# Altium schematic symbol library RPSLib.SchLib: 241 symbols (part 4 of 8)
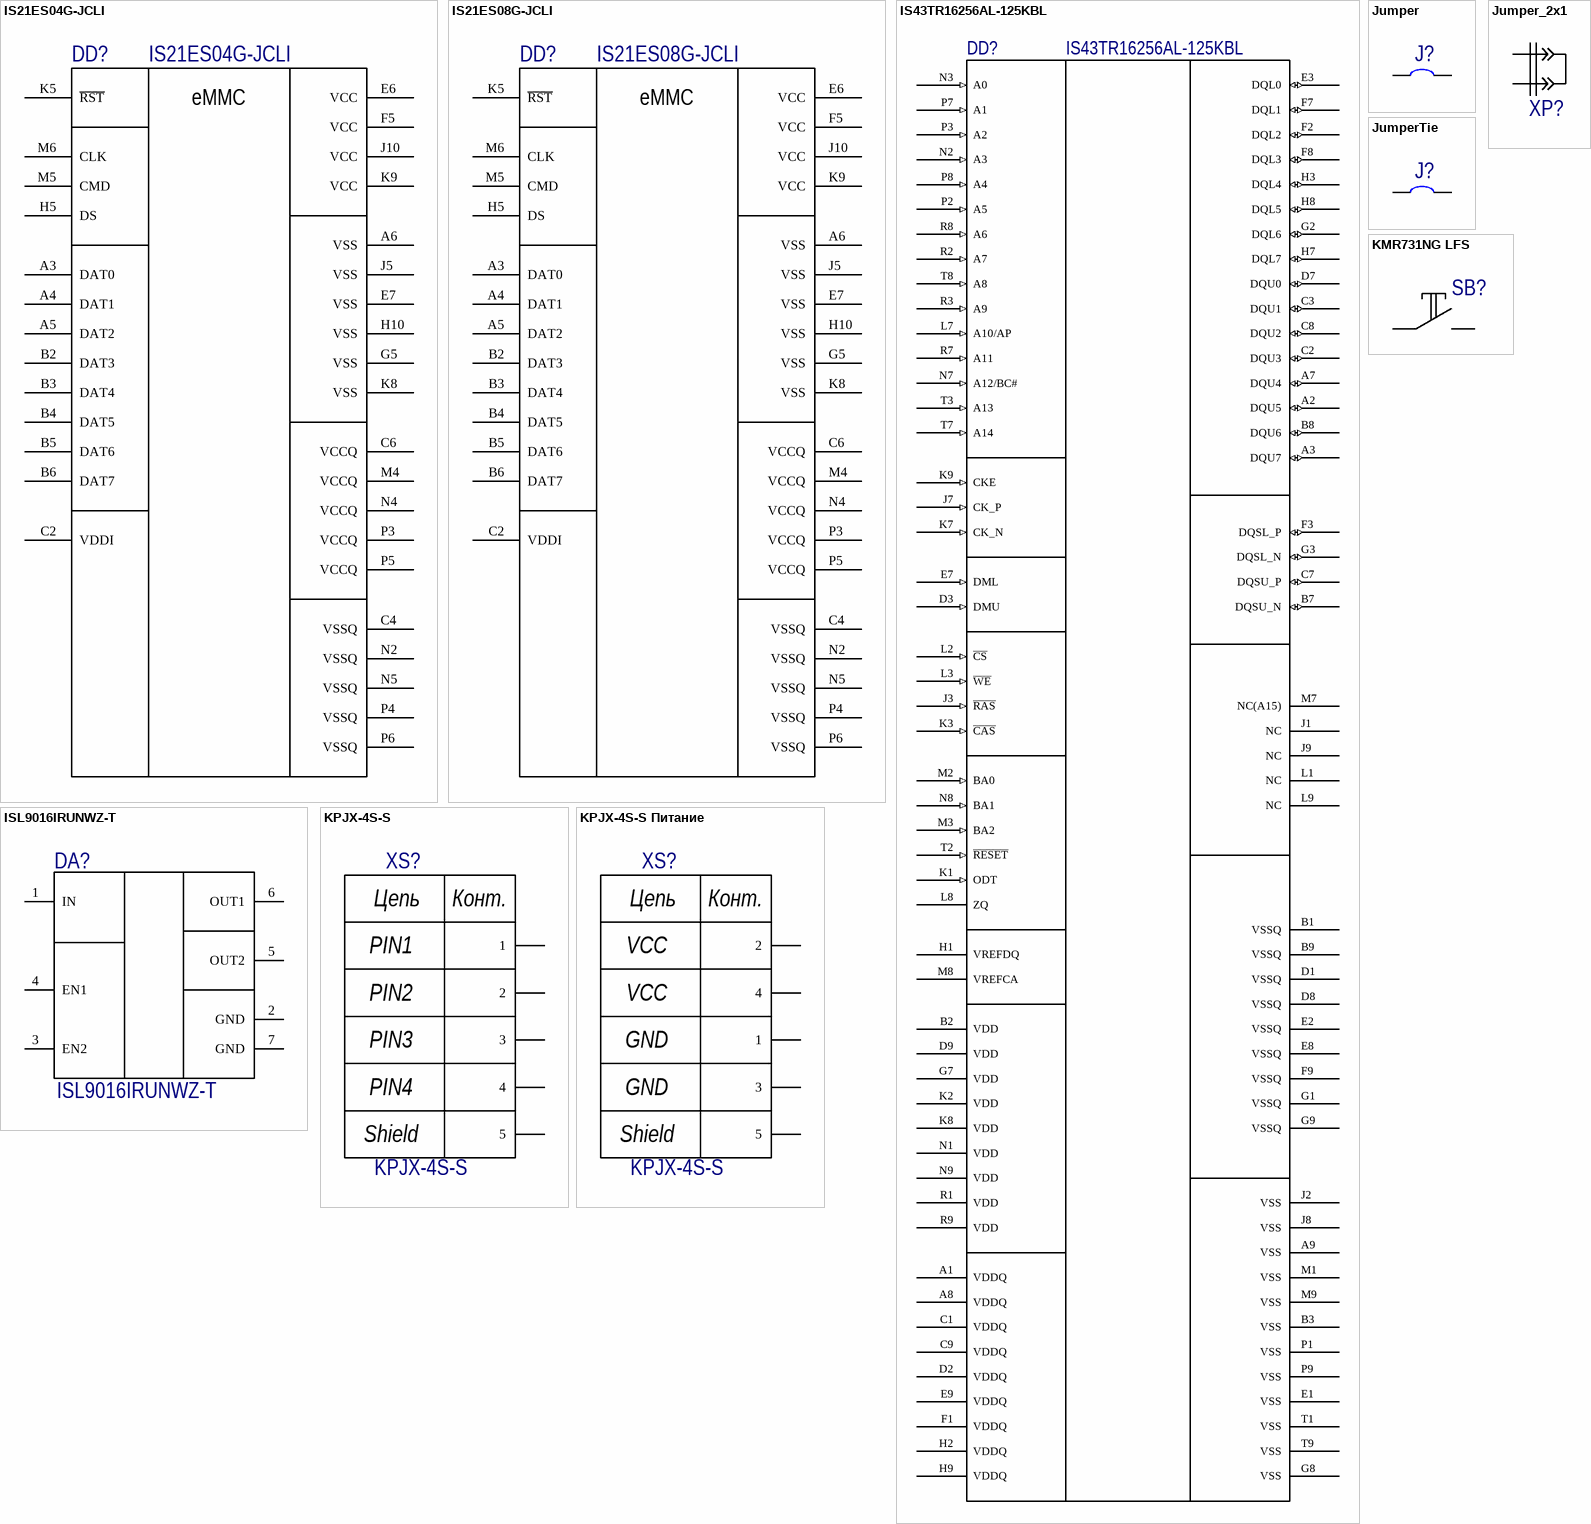
[diagram p28: symbols IS21ES04G-JCLI to KPJX-4S-S Питание]

## KPJX-4S-S Питание
designator XS?, comment KPJX-4S-S
CONN JACK FMALE 4POS TIN SOLDER; Manufacturer: Kycon; Voltage Rating (DC): 20V; Connector Type: Power; Gender: Female; Current Rating: 7.5A; Insulation Resistance: 50MR; Number of Contacts: 4; Supplier 1: Digi-Key; Manufacturer Part Number: KPJX-4S-S; RoHS: Yes; Category: Connectors; Stock 1: 3946; Pricing 1: 1=2,23000, 10=2,02100, 25=1,89760, 50=1,81500, 100=1,73250, 250=1,56752, 500=1,44376, 1000=1,23750, 2500=1,15500 (USD); Mount: Through Hole; Color: Black; Contact Material: Brass; Contact Plating: Tin; Housing Material: PBT; Orientation: Straight; Termination: Solder; Packaging: Tray; Voltage Rating: 20V; Contact Gender: Female; Package Quantity: 170; Radiation Hardening: No; Flammability Rating: UL94 V-0; ComponentLink1URL: https://datasheet.ciiva.com/4561/kpjx-365262-4561421.pdf?src-supplier=Mouser; ComponentLink1Description: https://datasheet.ciiva.com/4561/kpjx-365262-4561421.pdf?src-supplier=Mouser; Supplier Part Number 1: 2092-KPJX-4S-S-ND
footprint KPJX-4S-S
pins: 1, 2, 3, 4, 5
text: Цепь; Конт.; VCC; GND; Shield

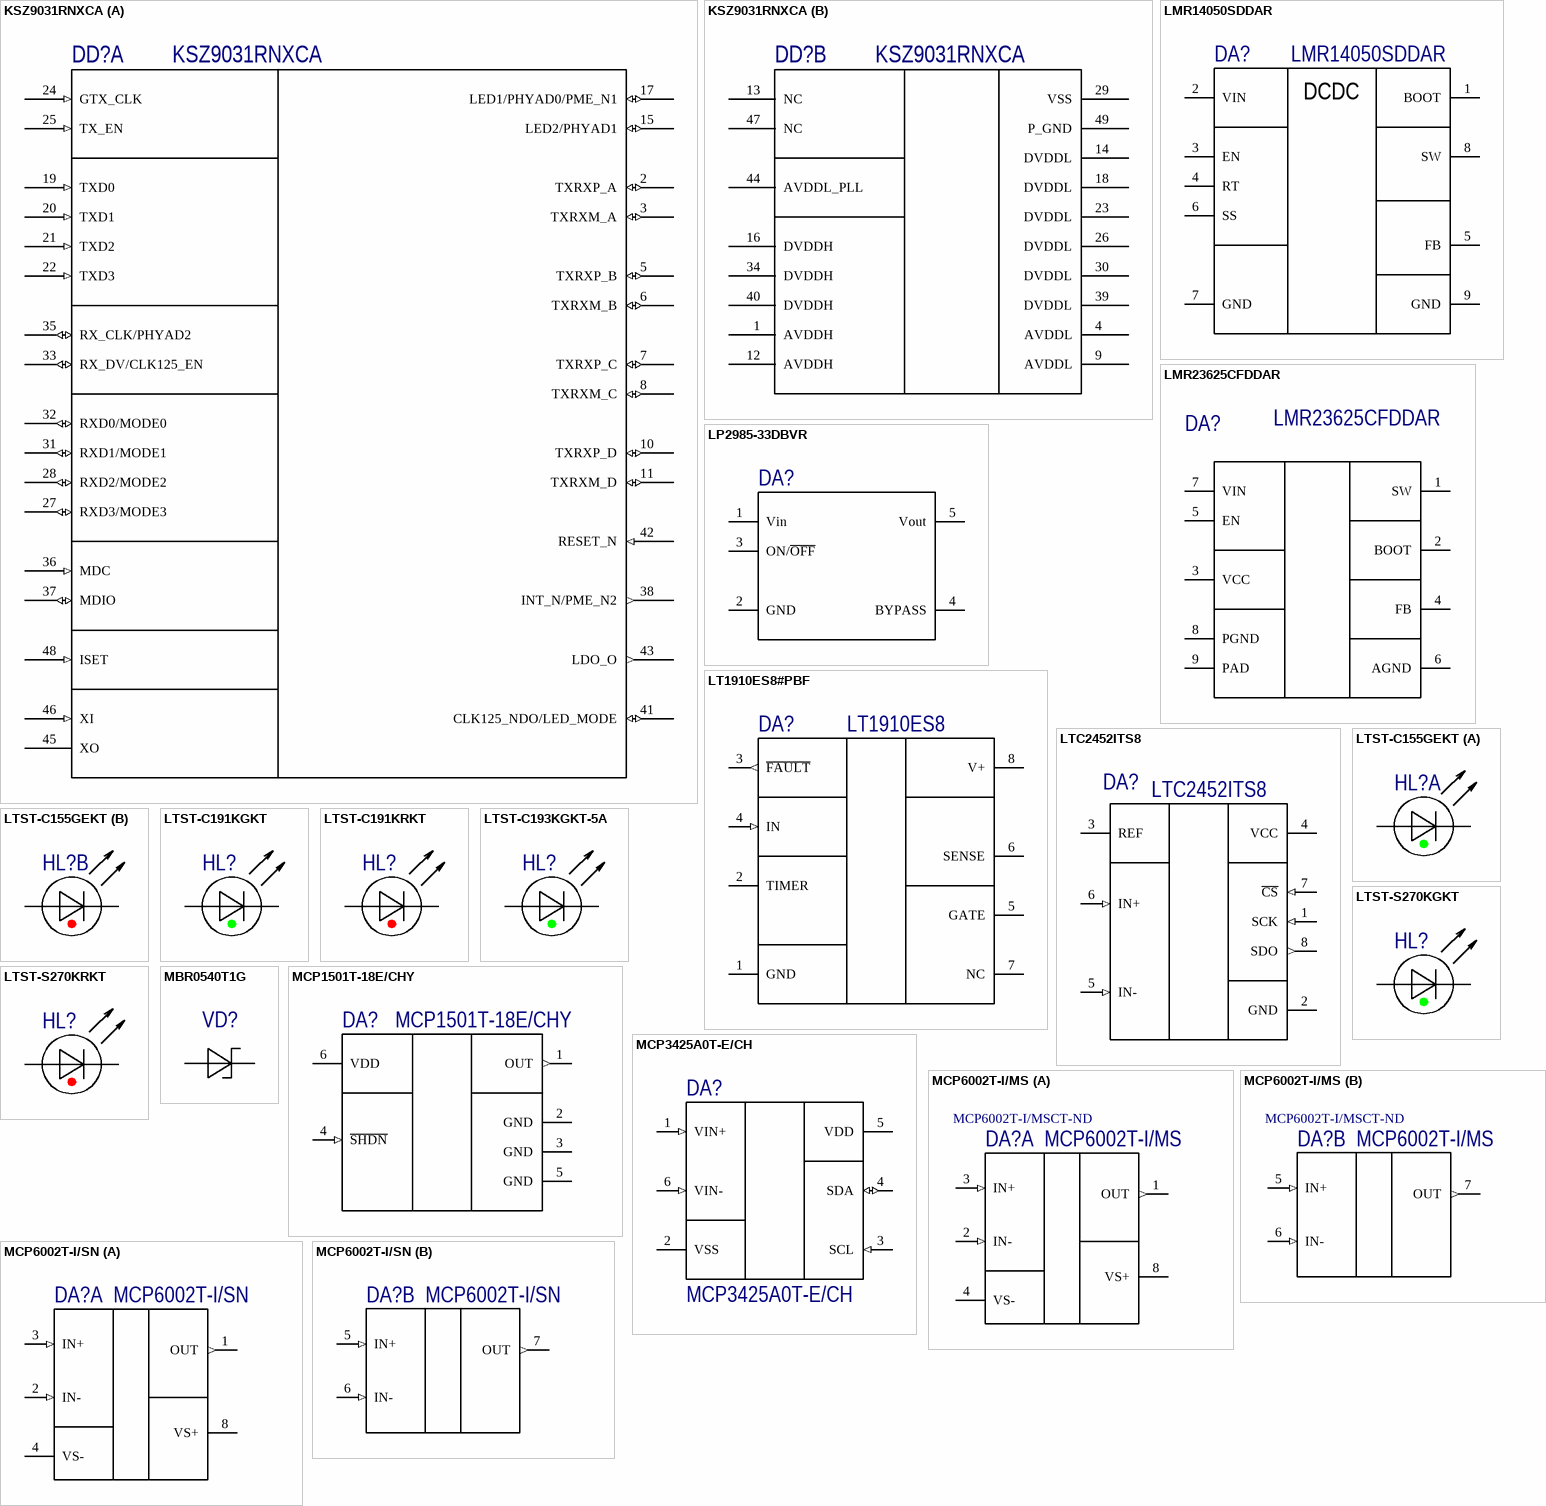
[diagram p6: symbols KSZ9031RNXCA to MCP6002T-I/SN]

## KSZ9031RNXCA
designator DD?
IC TXRX ETHERNET 48QFN; Manufacturer: Microchip; Supplier 1: Digi-Key; Manufacturer Part Number: KSZ9031RNXCA; RoHS: Yes; Category: Ethernet Interface ICs; Stock 1: 1696; Pricing 1: 1=5,51000, 10=4,95000, 25=4,68000, 100=3,84800 (USD); ComponentLink1URL: https://datasheet.ciiva.com/12289/nph-46-12289944.pdf?src-supplier=Mouser; ComponentLink1Description: https://datasheet.ciiva.com/12289/nph-46-12289944.pdf?src-supplier=Mouser; ComponentLink2URL: https://datasheet.ciiva.com/6634/nph-46-6634949.pdf?src-supplier=Digi-Key; ComponentLink2Description: https://datasheet.ciiva.com/6634/nph-46-6634949.pdf?src-supplier=Digi-Key; ComponentLink3URL: https://datasheet.ciiva.com/15149/getdatasheetpartid-564369-15149356.pdf?src-supplier=Verical; ComponentLink3Description: https://datasheet.ciiva.com/15149/getdatasheetpartid-564369-15149356.pdf?src-supplier=Verical; ComponentLink4URL: https://datasheet.ciiva.com/36857/ksz9031rnx-36857005.pdf?src-supplier=Element14; ComponentLink4Description: https://datasheet.ciiva.com/36857/ksz9031rnx-36857005.pdf?src-supplier=Element14; ComponentLink5URL: https://datasheet.ciiva.com/16495/nph-46-16495758.pdf?src-supplier=Future+Electronics; ComponentLink5Description: https://datasheet.ciiva.com/16495/nph-46-16495758.pdf?src-supplier=Future+Electronics; Supplier Part Number 1: 576-4040-ND
part A pins: 2 TXRXP_A (io) "Media Depend Interface[0], Positive signal of differential pair", 3 TXRXM_A (io) "Media Depend Interface[0], Negative signal of differential pair", 5 TXRXP_B (io) "Media Depend Interface[1], Positive signal of differential pair", 6 TXRXM_B (io) "Media Depend Interface[1], Negative signal of differential pair", 7 TXRXP_C (io) "Media Depend Interface[2], Positive signal of differential pair", 8 TXRXM_C (io) "Media Depend Interface[2], Negative signal of differential pair", 10 TXRXP_D (io) "Media Depend Interface[3], Positive signal of differential pair", 11 TXRXM_D (io) "Media Depend Interface[3], Negative signal of differential pair", 15 LED2/PHYAD1 (io), 17 LED1/PHYAD0/PME_N1 (io), 19 TXD0 (in) "RGMII mode: RGMII TD0 (Transmit Data 0) input", 20 TXD1 (in) "RGMII mode: RGMII TD1 (Transmit Data 1) input", 21 TXD2 (in) "RGMII mode: RGMII TD2 (Transmit Data 2) input", 22 TXD3 (in) "RGMII mode: RGMII TD3 (Transmit Data 3) input", 24 GTX_CLK (in) "RGMII mode: RGMII TXC (Transmit Reference Clock) input", 25 TX_EN (in) "RGMII mode: RGMII TX_CTL (Transmit Control) input", 27 RXD3/MODE3 (io), 28 RXD2/MODE2 (io), 31 RXD1/MODE1 (io), 32 RXD0/MODE0 (io), 33 RX_DV/CLK125_EN (io), 35 RX_CLK/PHYAD2 (io), 36 MDC (in) "Management data clock input, This pin is the input reference clock for MDIO (Pin 37).", 37 MDIO (io) "Management data input/output, This pin is synchronous to MDC (Pin 36) and requires an external pull-up resistor to DVDDH (Digital VDD_I/O) in a range from 1.0 kOhm to 4.7 kOhm.", 38 INT_N/PME_N2 (out), 41 CLK125_NDO/LED_MODE (io), 42 RESET_N (in) "Chip reset (active low).", 43 LDO_O (out) "On chip 1.2 V LDO controller output", 45 XO "25 MHZ crystal feedback this pin is a no connect if an oscillator or external clock source is used.", 46 XI (in) "Crystal / Oscillator / External Clock input 25 MHz +/-50 ppm tolerance.", 48 ISET (in) "Set the transmit output level Connect a 12.1 kOhm 1% resistor to ground on this pin."
part B pins: 1 AVDDH (power) "Analog VDD.", 4 AVDDL (power) "1.2 V Analog VDD.", 9 AVDDL (power) "1.2 V Analog VDD.", 12 AVDDH (power) "Analog VDD.", 13 NC "No connect.", 14 DVDDL (power) "1.2 V Digital VDD.", 16 DVDDH (power) "3.3 V, 2.5 V, or 1.8 V digital VDD_I/O.", 18 DVDDL (power) "1.2 V Digital VDD.", 23 DVDDL (power) "1.2 V Digital VDD.", 26 DVDDL (power) "1.2 V Digital VDD.", 29 VSS (power) "Digital ground", 30 DVDDL (power) "1.2 V Digital VDD.", 34 DVDDH (power) "3.3 V, 2.5 V, or 1.8 V digital VDD_I/O.", 39 DVDDL (power) "1.2 V Digital VDD.", 40 DVDDH (power) "3.3 V, 2.5 V, or 1.8 V digital VDD_I/O.", 44 AVDDL_PLL (power) "1.2 V Analog VDD for PLL.", 47 NC "No connect.", 49 P_GND (power) "Exposed paddle on bottom of chip Connect P_GND to ground."

## LMR14050SDDAR
designator DA?
IC REG BUCK ADJ 5A; Manufacturer: Texas Instruments; Quiescent Current: 40uA; Supplier 1: Digi-Key; Manufacturer Part Number: LMR14050SDDAR; RoHS: Yes; Category: Voltage Regulators - Switching; Stock 1: 2989; Pricing 1: 1=2,88000, 10=2,58900, 25=2,44720, 100=2,01220, 250=1,80556, 500=1,74028, 1000=1,44661 (USD); Min Operating Temperature: -40°C; Max Operating Temperature: 125°C; Lead Free: Lead Free; ComponentLink1URL: http://www.ti.com/general/docs/lit/getliterature.tsp?genericPartNumber=LMR14050&&fileType=pdf&src-supplier=Avnet; ComponentLink1Description: http://www.ti.com/general/docs/lit/getliterature.tsp?genericPartNumber=LMR14050&&fileType=pdf&src-supplier=Avnet; ComponentLink2URL: http://www.ti.com/lit/ds/symlink/lmr14050.pdf?src-supplier=Digi-Key; ComponentLink2Description: http://www.ti.com/lit/ds/symlink/lmr14050.pdf?src-supplier=Digi-Key; Supplier Part Number 1: 296-44322-1-ND
footprint SOIC127P600X170_HS-9N (SOIC, 8-Leads, Body 4,90x3,90mm, Pitch 1,27mm, Thermal Pad 3,10x2,40mm, IPC Medium Density)
pins: 1 BOOT, 2 VIN (power), 3 EN, 4 RT, 5 FB, 6 SS, 7 GND (power), 8 SW, 9 GND (power)
text: DCDC

## LMR23625CFDDAR
designator DA?
IC REG BUCK ADJ 2.5A SYNC 8SOPWR; Manufacturer: Texas Instruments; Quiescent Current: 75uA; Supplier 1: Digi-Key; Manufacturer Part Number: LMR23625CFDDAR; Stock 1: 5669; Pricing 1: 1=3,24000, 10=2,91200, 100=2,26370, 500=1,95782, 1000=1,62744 (USD); RoHS: No; Min Operating Temperature: -40°C; Max Operating Temperature: 125°C; Lead Free: Lead Free; ComponentLink1URL: http://www.ti.com/lit/ds/symlink/lmr23625.pdf?src-supplier=Digi-Key; ComponentLink1Description: http://www.ti.com/lit/ds/symlink/lmr23625.pdf?src-supplier=Digi-Key; ComponentLink2URL: http://www.ti.com/general/docs/suppproductinfo.tsp?distId=10&amp;gotoUrl=http%3A%2F%2Fwww.ti.com%2Flit%2Fgpn%2Flmr23625&src-supplier=Digi-Key; ComponentLink2Description: http://www.ti.com/general/docs/suppproductinfo.tsp?distId=10&amp;gotoUrl=http%3A%2F%2Fwww.ti.com%2Flit%2Fgpn%2Flmr23625&src-supplier=Digi-Key; Supplier Part Number 1: 296-47269-1-ND
footprint SOIC127P600X170_HS-9N (SOIC, 8-Leads, Body 4,90x3,90mm, Pitch 1,27mm, Thermal Pad 3,10x2,40mm, IPC Medium Density)
pins: 1 SW, 2 BOOT, 3 VCC, 4 FB, 5 EN, 6 AGND, 7 VIN, 8 PGND, 9 PAD

## LP2985-33DBVR
designator DA?  (value not drawn)
IC REG LDO 3.3V 0.15A SOT23-5; Manufacturer: Texas Instruments; Number of Outputs: 1; Min Input Voltage: 2.2V; Max Input Voltage: 16V; Max Output Current: 150mA; Polarity: Positive; Output Type: Fixed; Dropout Voltage: 280mV; Input Bias Current: 850uA; Accuracy: 1.5%; РКД Наименование: LP2985-33DBVR - LDO 3.3 V, 150 mA, SOT-23; PartNo: *; Supplier 1: Digi-Key; Manufacturer Part Number: LP2985-33DBVR; Stock 1: 139813; Pricing 1: 1=0.6, 10=0.527, 100=0.4039, 500=0.3193, 1000=0.25544 (USD); Case/Package: SOT-23; Number of Pins: 5; Contact Plating: Matte,Tin; Min Operating Temperature: -40°C; Max Operating Temperature: 125°C; Output Voltage: 3.3V; Packaging: Tape and Reel; Package Quantity: 1; Output Current: 150mA; Number of Regulators: 1; Output Voltage Accuracy: 1.5%; Quiescent Current: 850uA; Nominal Output Voltage: 3.3V; Radiation Hardening: No; Lead Free: Lead Free; REACH SVHC: No SVHC; Supplier Part Number 1: 296-18476-1-ND
footprint SOT95P280X145-5N (SOT23, 5-Leads, Body 2.90x2.80mm, Pitch 0.95mm, IPC Medium Density)
pins: 1 Vin, 2 GND, 3 ON/~{OFF}, 4 BYPASS, 5 Vout

## LT1910ES8#PBF
designator DA?, comment LT1910ES8
LINEAR TECHNOLOGY         LT1910ES8#PBF             MOSFET Driver IC, High Side, 8V-48V Supply, 40mA Out, 25 s Delay, SOIC-8; Manufacturer: Analog Devices / Linear Technology; Number of Outputs: 1; Min Supply Voltage: 8V; Max Supply Voltage: 48V; Turn-Off Delay Time: 100us; Turn-On Delay Time: 400us; Reference Voltage: 65mV; Max Supply Current: 2.5mA; Supplier 1: Digi-Key; Manufacturer Part Number: LT1910ES8#PBF; RoHS: Yes; Category: Gate Drivers; Stock 1: 6185; Pricing 1: 1=4,97000, 25=3,30160, 100=2,73000 (USD); Case/Package: SOIC; Number of Pins: 8; Min Operating Temperature: -40°C; Max Operating Temperature: 85°C; Package Quantity: 100; Max Output Current: 40mA; Packaging: Rail/Tube; Number of Drivers: 1; Length: 5mm; Height: 1.498mm; Width: 3.998mm; Radiation Hardening: No; REACH SVHC: No SVHC; Lead Free: Lead Free; ComponentLink1URL: https://datasheet.ciiva.com/15110/getdatasheetpartid-367278-15110233.pdf?src-supplier=Verical; ComponentLink1Description: https://datasheet.ciiva.com/15110/getdatasheetpartid-367278-15110233.pdf?src-supplier=Verical; ComponentLink2URL: https://datasheet.ciiva.com/25626/0900766b810ed968-25626635.pdf?src-supplier=RSComponents; ComponentLink2Description: https://datasheet.ciiva.com/25626/0900766b810ed968-25626635.pdf?src-supplier=RSComponents; ComponentLink3URL: https://datasheet.ciiva.com/19477/1742057-19477567.pdf?src-supplier=Jameco; ComponentLink3Description: https://datasheet.ciiva.com/19477/1742057-19477567.pdf?src-supplier=Jameco; ComponentLink4URL: https://datasheet.ciiva.com/1949/3996-1949938.pdf?src-supplier=Digi-Key; ComponentLink4Description: https://datasheet.ciiva.com/1949/3996-1949938.pdf?src-supplier=Digi-Key; ComponentLink5URL: https://datasheet.ciiva.com/1607/1843994-1607510.pdf?src-supplier=Newark; ComponentLink5Description: https://datasheet.ciiva.com/1607/1843994-1607510.pdf?src-supplier=Newark; ComponentLink6URL: https://datasheet.ciiva.com/1500/1843994-1500201.pdf?src-supplier=Element14; ComponentLink6Description: https://datasheet.ciiva.com/1500/1843994-1500201.pdf?src-supplier=Element14; ComponentLink7URL: https://datasheet.ciiva.com/7653/1843994-7653036.pdf?src-supplier=Element14; ComponentLink7Description: https://datasheet.ciiva.com/7653/1843994-7653036.pdf?src-supplier=Element14; ComponentLink8URL: https://datasheet.ciiva.com/48696/001255925-da-01-en-ic-mosfet-drive-lt1910es8-pbf-soic-8-ltc-48696183.pdf?src-supplier=Conrad; ComponentLink8Description: https://datasheet.ciiva.com/48696/001255925-da-01-en-ic-mosfet-drive-lt1910es8-pbf-soic-8-ltc-48696183.pdf?src-supplier=Conrad; Supplier Part Number 1: LT1910ES8#PBF-ND
footprint SOIC127P600X175-8N (SOIC, 8-Leads, Body 4.90x3.90mm, Pitch 1.27mm, IPC Medium Density)
pins: 1 GND (power), 2 TIMER, 3 ~{FAULT} (out), 4 IN (in), 5 GATE, 6 SENSE, 7 NC, 8 V+ (power)

## LTC2452ITS8
designator DA?
LINEAR TECHNOLOGY         LTC2452ITS8#TRMPBF             Analogue to Digital Converter, 16 bit, 60 SPS, Single, 2.7 V, 5.5 V, TSOT-23; Manufacturer: Analog Devices / Linear Technology; Interface: SPI,Serial; Sampling Rate: 60S/s; Number of Bits: 16; Max Supply Voltage: 5.5V; Min Supply Voltage: 2.7V; Max Power Dissipation: 2.4mW; Number of Converters: 2; Number of Elements: 1; Resolution: 16b; Polarity: Bipolar; Integral Nonlinearity (INL): 10LSB; Nominal Supply Current: 800uA; Supplier 1: Digi-Key; Manufacturer Part Number: LTC2452ITS8#TRMPBF; Stock 1: 1375; Pricing 1: 1=3,86000, 25=2,77000, 100=2,28000, 250=2,18880 (USD); RoHS: Yes; Mount: Surface Mount; Case/Package: TSOT; Number of Pins: 8; Min Operating Temperature: -40°C; Max Operating Temperature: 85°C; Package Quantity: 500; Packaging: Cut Tape; Supply Type: Single; REACH SVHC: No SVHC; ComponentLink1URL: https://datasheet.ciiva.com/6665/26279-6665365.pdf?src-supplier=Digi-Key; ComponentLink1Description: https://datasheet.ciiva.com/6665/26279-6665365.pdf?src-supplier=Digi-Key; ComponentLink2URL: https://datasheet.ciiva.com/5784/1441932-5784422.pdf?src-supplier=Farnell; ComponentLink2Description: https://datasheet.ciiva.com/5784/1441932-5784422.pdf?src-supplier=Farnell; ComponentLink3URL: https://datasheet.ciiva.com/6665/26279-6665366.pdf?src-supplier=Digi-Key; ComponentLink3Description: https://datasheet.ciiva.com/6665/26279-6665366.pdf?src-supplier=Digi-Key; ComponentLink4URL: https://datasheet.ciiva.com/5784/1441932-5784423.pdf?src-supplier=Farnell; ComponentLink4Description: https://datasheet.ciiva.com/5784/1441932-5784423.pdf?src-supplier=Farnell; ComponentLink5URL: https://datasheet.ciiva.com/48709/001254082-da-01-en-ic-adc-ltc2452its8-trmpbf-tsot-23-8-ltc-48709735.pdf?src-supplier=Conrad; ComponentLink5Description: https://datasheet.ciiva.com/48709/001254082-da-01-en-ic-adc-ltc2452its8-trmpbf-tsot-23-8-ltc-48709735.pdf?src-supplier=Conrad; Supplier Part Number 1: LTC2452ITS8#TRMPBFCT-ND
footprint TSOP65P280X100-8N (TSOP, 8-Leads, Body 2,90x1,63mm, Pitch 0,65mm, IPC Medium Density)
pins: 1 SCK (in), 2 GND (power), 3 REF, 4 VCC (power), 5 IN- (in), 6 IN+ (in), 7 ~{CS} (in), 8 SDO (out)

## LTST-C155GEKT
designator HL?  (value not drawn)
LED GREEN/RED CLEAR CHIP SMD; Manufacturer: Vishay Lite-On; Color: Green,Red; Lens Color: Colorless; Lens Style: Diffused,Colorless,Rectangular,Clear; Forward Voltage: 2V; Luminous Intensity: 6mcd; Test Current: 10mA; Wavelength: 630nm; Viewing Angle: 130°; Forward Current: 30mA; Dominant Wavelength: 621nm; Number of Elements: 2; Power Dissipation: 100mW; Reverse Voltage: 5V; Supplier 1: Digi-Key; Manufacturer Part Number: LTST-C155GEKT; RoHS: Yes; Category: LEDs; Stock 1: 94318; Pricing 1: 1=0,42000, 10=0,29700, 100=0,17310, 500=0,11870, 1000=0,09892 (USD); Mount: Surface Mount; Case/Package: 1210; Number of Pins: 4; Case Code (Metric): 3225; Case Code (Imperial): 1210; Min Operating Temperature: -55°C; Max Operating Temperature: 85°C; Package Quantity: 3000; Packaging: Tape and Reel; Illumination Color: Green,Red; Lens Transparency: Clear; Number of LEDs: 2; Length: 2.7mm; Height: 1.1mm; Width: 2.7mm; Depth: 3.2mm; Radiation Hardening: No; Lead Free: Lead Free; ComponentLink1URL: https://datasheet.ciiva.com/2110/ltst-c155gekt-2110704.pdf?src-supplier=Digi-Key; ComponentLink1Description: https://datasheet.ciiva.com/2110/ltst-c155gekt-2110704.pdf?src-supplier=Digi-Key; ComponentLink2URL: https://datasheet.ciiva.com/15117/getdatasheetpartid-123462-15117623.pdf?src-supplier=Verical; ComponentLink2Description: https://datasheet.ciiva.com/15117/getdatasheetpartid-123462-15117623.pdf?src-supplier=Verical; ComponentLink3URL: https://datasheet.ciiva.com/11775/0900766b80dc026c-11775659.pdf?src-supplier=RSComponents; ComponentLink3Description: https://datasheet.ciiva.com/11775/0900766b80dc026c-11775659.pdf?src-supplier=RSComponents; ComponentLink4URL: https://datasheet.ciiva.com/12403/lite-on-ltst-c155gekt-190166-12403903.pdf?src-supplier=Mouser; ComponentLink4Description: https://datasheet.ciiva.com/12403/lite-on-ltst-c155gekt-190166-12403903.pdf?src-supplier=Mouser; ComponentLink5URL: https://datasheet.ciiva.com/2110/ltst-c155gekt-2110705.pdf?src-supplier=Digi-Key; ComponentLink5Description: https://datasheet.ciiva.com/2110/ltst-c155gekt-2110705.pdf?src-supplier=Digi-Key; Supplier Part Number 1: 160-1172-1-ND
footprint LTST-C155 Dual color (Dual color LED)
part A pins: 1 A1, 3 C1
part B pins: 2 A2, 4 C2
1 alternate drawing of the same symbol

## LTST-C191KGKT
designator HL?  (value not drawn)
LED Uni-Color Green 574nm 2-Pin Chip LED T/R; Manufacturer: Vishay Lite-On; Lens Color: Colorless; Luminous Intensity: 35mcd; Viewing Angle: 130°; Forward Voltage: 2V; Dominant Wavelength: 571nm; Test Current: 20mA; Lens Transparency: Clear; Lens Style: Diffused,Colorless,Rectangular,Clear; Forward Current: 30mA; Number of Elements: 1; Power Dissipation: 75mW; Reverse Voltage: 5V; Supplier 1: Digi-Key; Manufacturer Part Number: LTST-C191KGKT; Stock 1: 807907; Pricing 1: 1=0,28000, 10=0,20100, 100=0,09540, 500=0,06364, 1000=0,04984, 2500=0,04878 (USD); RoHS: Yes; Mount: Surface Mount; Case/Package: 0603; Number of Pins: 2; Color: Green; Case Code (Metric): 1608; Case Code (Imperial): 0603; Min Operating Temperature: -55°C; Max Operating Temperature: 85°C; Packaging: Tape and Reel; Package Quantity: 1; Wavelength: 574nm; Illumination Color: Green; Number of LEDs: 1; Power Rating: 75mW; Length: 1.6mm; Height: 0.55mm; Width: 0.8mm; Depth: 0.8mm; Radiation Hardening: No; Lead Free: Lead Free; ComponentLink1URL: https://datasheet.ciiva.com/12400/100-ltst-c191kgkt-53586-12400818.pdf?src-supplier=Mouser; ComponentLink1Description: https://datasheet.ciiva.com/12400/100-ltst-c191kgkt-53586-12400818.pdf?src-supplier=Mouser; ComponentLink2URL: https://datasheet.ciiva.com/11773/0900766b80dc02b1-11773629.pdf?src-supplier=RSComponents; ComponentLink2Description: https://datasheet.ciiva.com/11773/0900766b80dc02b1-11773629.pdf?src-supplier=RSComponents; ComponentLink3URL: https://datasheet.ciiva.com/16215/ltst-c191kgkt-16215151.pdf?src-supplier=Future+Electronics; ComponentLink3Description: https://datasheet.ciiva.com/16215/ltst-c191kgkt-16215151.pdf?src-supplier=Future+Electronics; ComponentLink4URL: https://datasheet.ciiva.com/2109/s-110-ltst-c191kgkt-2109973.pdf?src-supplier=Digi-Key; ComponentLink4Description: https://datasheet.ciiva.com/2109/s-110-ltst-c191kgkt-2109973.pdf?src-supplier=Digi-Key; ComponentLink5URL: https://datasheet.ciiva.com/2109/s-110-ltst-c191kgkt-2109974.pdf?src-supplier=Digi-Key; ComponentLink5Description: https://datasheet.ciiva.com/2109/s-110-ltst-c191kgkt-2109974.pdf?src-supplier=Digi-Key; ComponentLink6URL: https://datasheet.ciiva.com/2109/s-110-ltst-c191kgkt-2109975.pdf?src-supplier=Digi-Key; ComponentLink6Description: https://datasheet.ciiva.com/2109/s-110-ltst-c191kgkt-2109975.pdf?src-supplier=Digi-Key; ComponentLink7URL: https://datasheet.ciiva.com/15223/getdatasheetpartid-103913-15223276.pdf?src-supplier=Verical; ComponentLink7Description: https://datasheet.ciiva.com/15223/getdatasheetpartid-103913-15223276.pdf?src-supplier=Verical; Supplier Part Number 1: 160-1446-1-ND
footprint DIOC1608X04N_LED (Chip LED, 2-Leads, Body 1,60x0,80mm, IPC Medium Density)
pins: 1 C, 2 A
1 alternate drawing of the same symbol

## LTST-C191KRKT
designator HL?  (value not drawn)
LED; SMD; 0603; red; 18-54mcd; 1.6x0.8x0.55mm; 130°; 2÷2.4V; 20mA; Manufacturer: Vishay Lite-On; Lens Color: Colorless; Power Rating: 75mW; Luminous Intensity: 54mcd; Forward Voltage: 2V; Lens Style: Clear,Diffused,Colorless,Rectangular; Forward Current: 30mA; Dominant Wavelength: 631nm; Lens Transparency: Clear; Number of Elements: 1; Wavelength: 639nm; Reverse Voltage: 5V; Supplier 1: Digi-Key; Manufacturer Part Number: LTST-C191KRKT; Stock 1: 327349; Pricing 1: 1=0,28000, 10=0,20100, 100=0,09540, 500=0,06364, 1000=0,04984, 2500=0,04878 (USD); RoHS: Yes; Mount: Surface Mount; Case/Package: 0603; Number of Pins: 2; Color: Red; Case Code (Metric): 1608; Case Code (Imperial): 0603; Min Operating Temperature: -55°C; Max Operating Temperature: 85°C; Packaging: Tape and Reel; Viewing Angle: 130°; Package Quantity: 1; Illumination Color: Red; Test Current: 20mA; Power Dissipation: 75mW; Number of LEDs: 1; Voltage: 2V; Length: 1.6mm; Height: 0.55mm; Width: 0.8mm; Depth: 0.8mm; Radiation Hardening: No; Lead Free: Lead Free; ComponentLink1URL: https://datasheet.ciiva.com/11773/0900766b80dc02b2-11773601.pdf?src-supplier=RSComponents; ComponentLink1Description: https://datasheet.ciiva.com/11773/0900766b80dc02b2-11773601.pdf?src-supplier=RSComponents; ComponentLink2URL: https://datasheet.ciiva.com/16212/ltst-c191krkt-16212419.pdf?src-supplier=Future+Electronics; ComponentLink2Description: https://datasheet.ciiva.com/16212/ltst-c191krkt-16212419.pdf?src-supplier=Future+Electronics; ComponentLink3URL: https://datasheet.ciiva.com/15117/getdatasheetpartid-141922-15117737.pdf?src-supplier=Verical; ComponentLink3Description: https://datasheet.ciiva.com/15117/getdatasheetpartid-141922-15117737.pdf?src-supplier=Verical; ComponentLink4URL: https://datasheet.ciiva.com/12400/lite-on-ltst-c191krkt-190135-12400910.pdf?src-supplier=Mouser; ComponentLink4Description: https://datasheet.ciiva.com/12400/lite-on-ltst-c191krkt-190135-12400910.pdf?src-supplier=Mouser; ComponentLink5URL: https://datasheet.ciiva.com/2109/s-110-ltst-c191krkt-2109970.pdf?src-supplier=Digi-Key; ComponentLink5Description: https://datasheet.ciiva.com/2109/s-110-ltst-c191krkt-2109970.pdf?src-supplier=Digi-Key; ComponentLink6URL: https://datasheet.ciiva.com/2109/s-110-ltst-c191krkt-2109971.pdf?src-supplier=Digi-Key; ComponentLink6Description: https://datasheet.ciiva.com/2109/s-110-ltst-c191krkt-2109971.pdf?src-supplier=Digi-Key; ComponentLink7URL: https://datasheet.ciiva.com/2109/s-110-ltst-c191krkt-2109972.pdf?src-supplier=Digi-Key; ComponentLink7Description: https://datasheet.ciiva.com/2109/s-110-ltst-c191krkt-2109972.pdf?src-supplier=Digi-Key; Supplier Part Number 1: 160-1447-1-ND
footprint DIOC1608X04N_LED (Chip LED, 2-Leads, Body 1,60x0,80mm, IPC Medium Density)
pins: 1 C, 2 A
1 alternate drawing of the same symbol

## LTST-C193KGKT-5A
designator HL?  (value not drawn)
Lite-On LTST-C193KGKT-5A Green LED, 576.5 nm 1608 (0603), Rectangle Lens SMD package; Manufacturer: Vishay Lite-On; Lens Colour: Clear,Colorless; Luminous Intensity: 28mcd; Forward Current: 30mA; Viewing Angle: 130°; Forward Voltage: 2.3V; Lens Style: Clear,Colorless,Diffused,Rectangular; Illumination Colour: Green,Yellow; Test Current: 5mA; Number of Elements: 1; Power Dissipation: 75mW; Reverse Voltage: 5V; Lens Transparency: Clear; РКД Наименование: LTST-C193KGKT-5A; Supplier 1: Digi-Key; Manufacturer Part Number: LTST-C193KGKT-5A; Stock 1: 421729; Pricing 1: 1=0.41, 10=0.296, 25=0.2268, 100=0.148, 250=0.10852, 500=0.0921, 1000=0.07565, 2500=0.06578 (USD); Mount: Surface Mount; Case/Package: 0603; Number of Pins: 2; Colour: Green; Case Code (Metric): 1608; Case Code (Imperial): 0603; Min Operating Temperature: -55°C; Max Operating Temperature: 85°C; Packaging: Tape and Reel; Package Quantity: 3000; Dominant Wavelength: 576.5nm; Number of LEDs: 1; Power Rating: 75mW; Length: 1.6mm; Height: 0.35mm; Width: 0.8mm; Depth: 0.8mm; Radiation Hardening: No; Lead Free: Lead Free; ComponentLink1URL: http://www1.futureelectronics.com/doc/LITE-ON/LTST-C193KGKT-5A.pdf; ComponentLink1Description: http://www1.futureelectronics.com/doc/LITE-ON/LTST-C193KGKT-5A.pdf; ComponentLink2URL: http://optoelectronics.liteon.com/upload/download/DS22-2007-0094/LTST-C193KGKT-5A.PDF; ComponentLink2Description: http://optoelectronics.liteon.com/upload/download/DS22-2007-0094/LTST-C193KGKT-5A.PDF; ComponentLink3URL: http://www.mouser.com/ds/2/239/LTST-C193_Series-201756.pdf; ComponentLink3Description: http://www.mouser.com/ds/2/239/LTST-C193_Series-201756.pdf; ComponentLink4URL: http://uk.rs-online.com/webdocs/1406/0900766b81406ab4.pdf; ComponentLink4Description: http://uk.rs-online.com/webdocs/1406/0900766b81406ab4.pdf; Supplier Part Number 1: 160-1828-1-ND
footprint DIOC1608X04N_LED (Chip LED, 2-Leads, Body 1,60x0,80mm, IPC Medium Density)
pins: 1 C, 2 A
1 alternate drawing of the same symbol

## LTST-S270KGKT
designator HL?  (value not drawn)
LED Uni-Color Green 574nm 2-Pin Chip LED T/R; Manufacturer: Vishay Lite-On; Lens Colour: Clear,Colorless; Forward Current: 30mA; Forward Voltage: 2V; Luminous Intensity: 71mcd; Viewing Angle: 130°; Lens Style: Clear,Colorless,Diffused,Rectangular; Dominant Wavelength: 571nm; Test Current: 20mA; Lens Transparency: Clear; Number of Elements: 1; Power Dissipation: 75mW; Reverse Voltage: 5V; РКД Наименование: LTST-S270KGKT - Green LED, right angle SMD; Digikey: *; Supplier 1: Digi-Key; Manufacturer Part Number: LTST-S270KGKT; Stock 1: 455373; Pricing 1: 1=0.32, 10=0.23, 25=0.1696, 100=0.1213, 250=0.08244, 500=0.07276, 1000=0.05699 (USD); Mount: Surface Mount; Case/Package: 0603; Number of Pins: 2; Colour: Green; Case Code (Metric): 1608; Case Code (Imperial): 0603; Min Operating Temperature: -55°C; Max Operating Temperature: 85°C; Illumination Colour: Green; Packaging: Tape and Reel; Package Quantity: 1; Wavelength: 574nm; Number of LEDs: 1; Power Rating: 75mW; Length: 1.6mm; Height: 0.6mm; Width: 1.15mm; Depth: 0.6mm; Radiation Hardening: No; Lead Free: Lead Free; Supplier Part Number 1: 160-1478-1-ND
footprint LTST-S270KGKT (LED Green Right Angle)
pins: 1 C, 2 A
1 alternate drawing of the same symbol

## LTST-S270KRKT
designator HL?  (value not drawn)
LED Uni-Color Red 639nm 2-Pin Chip LED T/R; Manufacturer: Vishay Lite-On; Lens Colour: Clear,Colorless; Forward Voltage: 2V; Forward Current: 30mA; Luminous Intensity: 54mcd; Viewing Angle: 130°; Lens Style: Clear,Colorless,Diffused,Rectangular; Power Rating: 75mW; Dominant Wavelength: 631nm; Test Current: 20mA; Lens Transparency: Clear; Number of Elements: 1; Reverse Voltage: 5V; РКД Наименование: LTST-S270KRKT - Red LED, right angle SMD; Supplier 1: Digi-Key; Manufacturer Part Number: LTST-S270KRKT; Stock 1: 249625; Pricing 1: 1=0.27, 10=0.196, 25=0.1448, 100=0.1034, 250=0.07032, 500=0.06204, 1000=0.0486 (USD); Mount: Surface Mount; Case/Package: 0603; Number of Pins: 2; Colour: Red; Case Code (Metric): 1608; Case Code (Imperial): 0603; Min Operating Temperature: -55°C; Max Operating Temperature: 85°C; Packaging: Tape and Reel; Package Quantity: 1; Illumination Colour: Red; Power Dissipation: 75mW; Wavelength: 639nm; Number of LEDs: 1; Max Power Dissipation: 75mW; Length: 1.6mm; Height: 0.6mm; Width: 1.15mm; Depth: 0.6mm; Radiation Hardening: No; Lead Free: Lead Free; Supplier Part Number 1: 160-1479-1-ND
footprint LTST-S270KRKT (LED Red Right Angle)
pins: 1 C, 2 A
1 alternate drawing of the same symbol

## MBR0540T1G
designator VD?  (value not drawn)
DIODE SCHOTTKY 40V 500MA SOD123; Manufacturer: ON Semiconductor; Current: 0.5 A; Max Surge Current: 5.5A; Forward Voltage: 510mV; Peak Reverse Current: 20uA; Element Configuration: Single; Polarity: Standard; Voltage: 40 V; Supplier 1: Digi-Key; Supplier Part Number 1: MBR0540T1GOSCT-ND; PartNo: MBR0540T1G; Manufacturer Part Number: MBR0540T1G; Stock 1: 724811; Pricing 1: 1=0.41, 10=0.333, 100=0.1763, 500=0.116, 1000=0.07888 (USD); Case/Package: SOD-123-2; Number of Pins: 2; Contact Plating: Matte,Tin; Min Operating Temperature: -55°C; Max Operating Temperature: 150°C; Forward Current: 500mA; Package Quantity: 1; Packaging: Tape and Reel; Max Reverse Leakage Current: 20uA; Average Rectified Current: 500mA; Max Repetitive Reverse Voltage (Vrrm): 40V; Max Forward Surge Current (Ifsm): 5.5A; Peak Non-Repetitive Surge Current: 5.5A; Voltage Rating (DC): 40V; Current Rating: 500mA; Output Current: 500mA; Max Reverse Voltage (DC): 40V; Length: 0.111inch; Height: 0.049inch; Width: 0.071inch; Radiation Hardening: No; REACH SVHC: No SVHC; Lead Free: Lead Free; Halogen Free: Halogen Free; РКД Наименование: *
footprint SOD123 (Footprint not found)
pins: 1, 2

## MCP1501T-18E/CHY
designator DA?
V-Ref Precision 1.8V 20mA 6-Pin SOT-23 T/R; Manufacturer: Microchip; Supplier 1: Digi-Key; Manufacturer Part Number: MCP1501T-18E/CHY; RoHS: Yes; Category: Voltage References; Stock 1: 5052; Pricing 1: 1=0,76000, 25=0,63000, 100=0,58000 (USD); ComponentLink1URL: http://www.microchip.com/mymicrochip/filehandler.aspx?ddocname=en584595&src-supplier=Digi-Key; ComponentLink1Description: http://www.microchip.com/mymicrochip/filehandler.aspx?ddocname=en584595&src-supplier=Digi-Key; Supplier Part Number 1: MCP1501T-18E/CHYCT-ND
footprint SOT95P280X145-6N (SOT23, 6-Leads, Body 2.92x2.80mm, Pitch 0.95mm, IPC Medium Density)
pins: 1 OUT (out), 2 GND (power), 3 GND (power), 4 ~{SHDN} (in), 5 GND (power), 6 VDD (power)

## MCP3425A0T-E/CH
designator DA?
Analog to Digital Converters - ADC 16-B delta-sigma ADC Sngl Ch 15sps; Manufacturer: Microchip; Sampling Rate: 15S/s; Resolution: 16b; Number of Analog Inputs: 1; Polarity: Bipolar; Interface: I2C,Serial,2-Wire; Min Supply Voltage: 2.7V; Max Supply Voltage: 5.5V; Number of Bits: 16; Conversion Rate: 0.015KS/s; Nominal Supply Current: 155uA; Operating Supply Voltage: 5V; Supply Type: Single; IIC Address: 1101000; Supplier 1: Digi-Key; Manufacturer Part Number: MCP3425A0T-E/CH; RoHS: Yes; Category: Analog to Digital Converters (ADCs); Stock 1: 14696; Pricing 1: 1=2,17000, 25=1,81000 (USD); Mount: Surface Mount; Case/Package: SOT-23; Number of Pins: 6; Contact Plating: Tin,Matte; Min Operating Temperature: -40°C; Max Operating Temperature: 85°C; Number of Channels: 1; Package Quantity: 3000; Packaging: Tape and Reel; Number of Inputs: 1; Number of Converters: 1; Number of A/D Converters: 1; Number of Elements: 1; Termination: SMD/SMT; Length: 3.1mm; Height: 1.3mm; Width: 1.8mm; Radiation Hardening: No; REACH SVHC: No SVHC; Lead Free: Lead Free; ComponentLink1URL: https://datasheet.ciiva.com/4774/22072a-46165-4774881.pdf?src-supplier=Mouser; ComponentLink1Description: https://datasheet.ciiva.com/4774/22072a-46165-4774881.pdf?src-supplier=Mouser; ComponentLink2URL: https://datasheet.ciiva.com/22696/525051-22696391.pdf?src-supplier=Element14; ComponentLink2Description: https://datasheet.ciiva.com/22696/525051-22696391.pdf?src-supplier=Element14; ComponentLink3URL: https://datasheet.ciiva.com/8065/37966-8065868.pdf?src-supplier=Element14; ComponentLink3Description: https://datasheet.ciiva.com/8065/37966-8065868.pdf?src-supplier=Element14; ComponentLink4URL: https://datasheet.ciiva.com/6663/22072b-6663840.pdf?src-supplier=Digi-Key; ComponentLink4Description: https://datasheet.ciiva.com/6663/22072b-6663840.pdf?src-supplier=Digi-Key; ComponentLink5URL: https://datasheet.ciiva.com/3043/22072b-3043173.pdf?src-supplier=Avnet; ComponentLink5Description: https://datasheet.ciiva.com/3043/22072b-3043173.pdf?src-supplier=Avnet; ComponentLink6URL: https://datasheet.ciiva.com/14580/70046608-14580186.pdf?src-supplier=Allied+Electronics; ComponentLink6Description: https://datasheet.ciiva.com/14580/70046608-14580186.pdf?src-supplier=Allied+Electronics; ComponentLink7URL: https://datasheet.ciiva.com/6663/22072b-6663839.pdf?src-supplier=Digi-Key; ComponentLink7Description: https://datasheet.ciiva.com/6663/22072b-6663839.pdf?src-supplier=Digi-Key; Supplier Part Number 1: MCP3425A0T-E/CHCT-ND
footprint SOT95P280X145-6N (SOT23, 6-Leads, Body 2.92x2.80mm, Pitch 0.95mm, IPC Medium Density)
pins: 1 VIN+ (in), 2 VSS (power), 3 SCL (in), 4 SDA (io), 5 VDD (power), 6 VIN- (in)

## MCP6002T-I/MS
designator DA?  Supplier Part Number 1: MCP6002T-I/MSCT-ND
IC OPAMP GP 1MHZ RRO 8MSOP; Manufacturer: Microchip; Supplier 1: Digi-Key; Manufacturer Part Number: MCP6002T-I/MS; RoHS: Yes; Category: Amplifiers - Op Amps, Buffer, Instrumentation; Stock 1: 36766; Pricing 1: 1=0,33000, 25=0,28000, 100=0,25000 (USD); ComponentLink1URL: https://datasheet.ciiva.com/26922/getdatasheetpartid-774468-26922652.pdf?src-supplier=Verical; ComponentLink1Description: https://datasheet.ciiva.com/26922/getdatasheetpartid-774468-26922652.pdf?src-supplier=Verical; ComponentLink2URL: https://datasheet.ciiva.com/26344/651491-da-01-en-ic-opamp-mcp6002t-i-ms-msop-8-mcp-26344501.pdf?src-supplier=Conrad; ComponentLink2Description: https://datasheet.ciiva.com/26344/651491-da-01-en-ic-opamp-mcp6002t-i-ms-msop-8-mcp-26344501.pdf?src-supplier=Conrad; ComponentLink3URL: https://datasheet.ciiva.com/4756/21733e-41017-4756694.pdf?src-supplier=Mouser; ComponentLink3Description: https://datasheet.ciiva.com/4756/21733e-41017-4756694.pdf?src-supplier=Mouser; ComponentLink4URL: https://datasheet.ciiva.com/8079/524878-8079095.pdf?src-supplier=Element14; ComponentLink4Description: https://datasheet.ciiva.com/8079/524878-8079095.pdf?src-supplier=Element14; ComponentLink5URL: https://datasheet.ciiva.com/2973/jp011705-2973688.pdf?src-supplier=Avnet; ComponentLink5Description: https://datasheet.ciiva.com/2973/jp011705-2973688.pdf?src-supplier=Avnet; ComponentLink6URL: https://datasheet.ciiva.com/1793/21733j-1793145.pdf?src-supplier=Digi-Key; ComponentLink6Description: https://datasheet.ciiva.com/1793/21733j-1793145.pdf?src-supplier=Digi-Key; ComponentLink7URL: https://datasheet.ciiva.com/1793/21733j-1793146.pdf?src-supplier=Digi-Key; ComponentLink7Description: https://datasheet.ciiva.com/1793/21733j-1793146.pdf?src-supplier=Digi-Key; ComponentLink8URL: https://datasheet.ciiva.com/1793/21733j-1793147.pdf?src-supplier=Digi-Key; ComponentLink8Description: https://datasheet.ciiva.com/1793/21733j-1793147.pdf?src-supplier=Digi-Key
footprint TSOP65P490X110-8N (TSOP, 8-Leads, Body 3,00x3,00mm, Pitch 0,65mm, IPC Medium Density)
part A pins: 1 OUT (out), 2 IN- (in), 3 IN+ (in), 4 VS- (power), 8 VS+
part B pins: 5 IN+ (in), 6 IN- (in), 7 OUT (out)

## MCP6002T-I/SN
designator DA?
IC OPAMP GP 1MHZ RRO 8SOIC; Manufacturer: Microchip; Supplier 1: Digi-Key; Manufacturer Part Number: MCP6002T-I/SN; RoHS: Yes; Category: Amplifiers - Op Amps, Buffer, Instrumentation; Stock 1: 126093; Pricing 1: 1=0,33000, 25=0,28000, 100=0,25000 (USD); ComponentLink1URL: https://datasheet.ciiva.com/26922/getdatasheetpartid-774796-26922654.pdf?src-supplier=Verical; ComponentLink1Description: https://datasheet.ciiva.com/26922/getdatasheetpartid-774796-26922654.pdf?src-supplier=Verical; ComponentLink2URL: https://datasheet.ciiva.com/1804/21733j-1804800.pdf?src-supplier=Digi-Key; ComponentLink2Description: https://datasheet.ciiva.com/1804/21733j-1804800.pdf?src-supplier=Digi-Key; ComponentLink3URL: https://datasheet.ciiva.com/16755/jp011705-16755862.pdf?src-supplier=Avnet+Europe; ComponentLink3Description: https://datasheet.ciiva.com/16755/jp011705-16755862.pdf?src-supplier=Avnet+Europe; ComponentLink4URL: https://datasheet.ciiva.com/11711/jp011705-11711005.pdf?src-supplier=Avnet; ComponentLink4Description: https://datasheet.ciiva.com/11711/jp011705-11711005.pdf?src-supplier=Avnet; ComponentLink5URL: https://datasheet.ciiva.com/29639/filehandler-aspxddocname-en011705-29639006.pdf?src-supplier=Digi-Key; ComponentLink5Description: https://datasheet.ciiva.com/29639/filehandler-aspxddocname-en011705-29639006.pdf?src-supplier=Digi-Key; ComponentLink6URL: https://datasheet.ciiva.com/29639/filehandler-aspxddocname-en011705-29639007.pdf?src-supplier=Digi-Key; ComponentLink6Description: https://datasheet.ciiva.com/29639/filehandler-aspxddocname-en011705-29639007.pdf?src-supplier=Digi-Key; Supplier Part Number 1: MCP6002T-I/SNCT-ND
footprint SOIC127P600X175-8N (SOIC, 8-Leads, Body 4.90x3.90mm, Pitch 1.27mm, IPC Medium Density)
part A pins: 1 OUT (out), 2 IN- (in), 3 IN+ (in), 4 VS- (power), 8 VS+
part B pins: 5 IN+ (in), 6 IN- (in), 7 OUT (out)

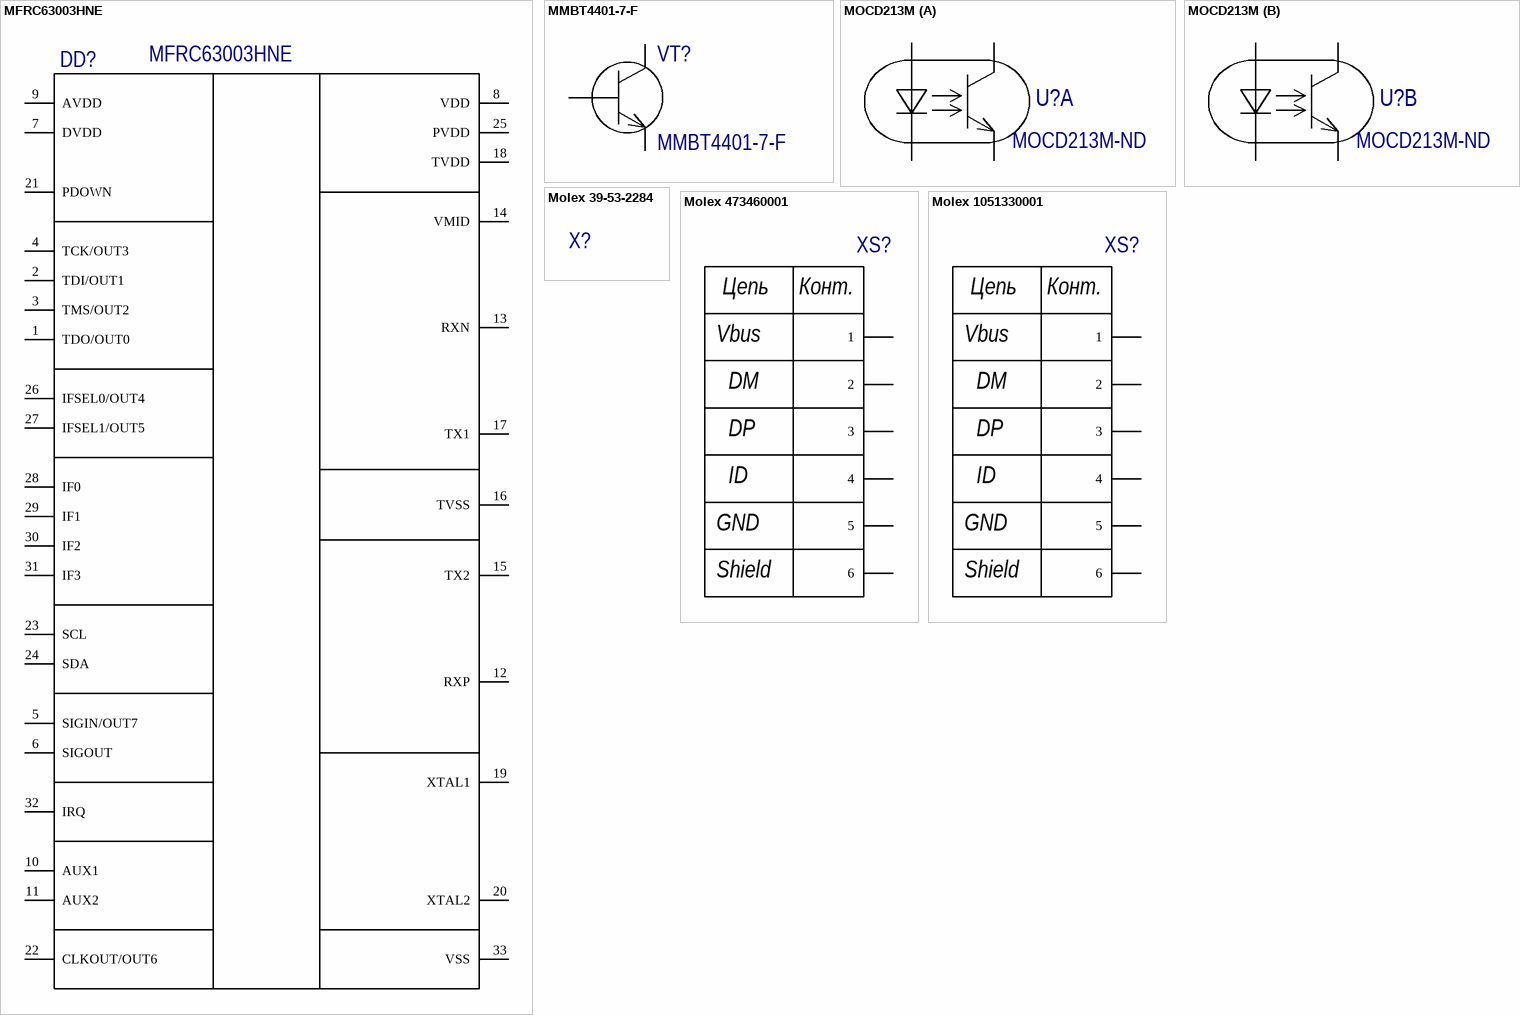
[diagram p7: symbols MFRC63003HNE to Molex 1051330001]

## MFRC63003HNE
designator DD?
IC RFID TRANSP 13.56MHZ 32HVQFN; Manufacturer: NXP Semiconductors; Supplier 1: Digi-Key; Stock 1: 543; Pricing 1: 1=5.04, 10=4.522, 25=4.2752, 490=3.515, 980=3.154, 1470=2.66 (USD); Supplier Part Number 1: 568-13700-ND; Manufacturer Part Number: MFRC63003HNE
footprint QFN50P500X500X100_HS-33N_MFRC (QFN, 32-Leads, Body 5,00x5,00mm, Pitch 0,50mm, Thermal Pad 3,10x3,10mm, IPC Medium Density)
pins: 1 TDO/OUT0, 2 TDI/OUT1, 3 TMS/OUT2, 4 TCK/OUT3, 5 SIGIN/OUT7, 6 SIGOUT, 7 DVDD, 8 VDD, 9 AVDD, 10 AUX1, 11 AUX2, 12 RXP, 13 RXN, 14 VMID, 15 TX2, 16 TVSS, 17 TX1, 18 TVDD, 19 XTAL1, 20 XTAL2, 21 PDOWN, 22 CLKOUT/OUT6, 23 SCL, 24 SDA, 25 PVDD, 26 IFSEL0/OUT4, 27 IFSEL1/OUT5, 28 IF0, 29 IF1, 30 IF2, 31 IF3, 32 IRQ, 33 VSS

## MMBT4401-7-F
designator VT?
TRANS NPN 40V 0.6A SMD SOT23-3; Manufacturer: Diodes; Max Power Dissipation: 300mW; Max Collector Current: 600mA; Collector Base Voltage (VCBO): 60V; Frequency: 250MHz; hFE Min: 100; Number of Elements: 1; Emitter Base Voltage (VEBO): 6V; Collector Emitter Saturation Voltage: 750mV; Power Dissipation: 310mW; Element Configuration: Single; Supplier 1: Digi-Key; Manufacturer Part Number: MMBT4401-7-F; Stock 1: 416046; Pricing 1: 1=0.15, 10=0.134, 100=0.0729, 500=0.04486, 1000=0.03059 (USD); Mount: Surface Mount; Case/Package: SOT-23; Number of Pins: 3; Weight: 0.000282oz; Contact Plating: Matte,Tin; Min Operating Temperature: -55°C; Max Operating Temperature: 150°C; Collector Emitter Voltage (VCEO): 40V; Polarity: NPN; Packaging: Tape and Reel; Package Quantity: 3000; Transition Frequency: 250MHz; Collector Emitter Breakdown Voltage: 40V; Max Breakdown Voltage: 40V; Continuous Collector Current: 600mA; Max Frequency: 250MHz; Gain Bandwidth Product: 250MHz; Voltage Rating (DC): 40V; Length: 3.05mm; Height: 1mm; Width: 1.4mm; Radiation Hardening: No; REACH SVHC: No SVHC; Lead Free: Lead Free; Supplier Part Number 1: MMBT4401-FDICT-ND; РКД Наименование: *
footprint SOT95P232X100-3N (SOT23, 3-Leads, Body 2.92x2.32mm, Pitch 0.95mm, IPC Medium Density)
pins: 1 B, 2 E, 3 C

## MOCD213M
designator U?  Supplier Part Number 1: MOCD213M-ND
8SO 2-CH TR; Manufacturer: ON Semiconductor / Fairchild; Manufacturer Part Number: MOCD213M; Collector Emitter Voltage (VCEO): 400mV; Number of Channels: 2; Forward Voltage: 1.55V; Max Output Voltage: 70V; Output Current per Channel: 150mA; Max Power Dissipation: 250mW; Rise Time: 1.6us; Reverse Breakdown Voltage: 6V; Forward Current: 60mA; Isolation Voltage: 2.5kV; Fall Time: 2.2us; Input Current: 30mA; Supplier 1: Digi-Key; RoHS: Yes; Category: Optocouplers; Stock 1: 2278; Pricing 1: 1=1,10000, 10=0,89700, 100=0,55200, 500=0,46920, 1000=0,38640 (USD); Mount: Surface Mount; Case/Package: SOIC; Number of Pins: 8; Weight: 0.252g; Min Operating Temperature: -40°C; Max Operating Temperature: 100°C; Packaging: Rail/Tube; Package Quantity: 3000; Max Collector Current: 150mA; Collector Emitter Saturation Voltage: 400mV; Reverse Voltage (DC): 6V; Max Input Current: 60mA; Number of Elements: 2; Power Dissipation: 250mW; Voltage Rating (DC): 70V; Number of Circuits: 2; Length: 5.13mm; Height: 3.43mm; Width: 4.16mm; Radiation Hardening: No; REACH SVHC: No SVHC; Lead Free: Lead Free; ComponentLink1URL: https://datasheet.ciiva.com/15118/getdatasheetpartid-117305-15118684.pdf?src-supplier=Verical; ComponentLink1Description: https://datasheet.ciiva.com/15118/getdatasheetpartid-117305-15118684.pdf?src-supplier=Verical; ComponentLink2URL: https://datasheet.ciiva.com/8095/mocd213m-8095675.pdf?src-supplier=Avnet; ComponentLink2Description: https://datasheet.ciiva.com/8095/mocd213m-8095675.pdf?src-supplier=Avnet; ComponentLink3URL: https://datasheet.ciiva.com/26124/mocd213m-26124421.pdf?src-supplier=Avnet+Europe; ComponentLink3Description: https://datasheet.ciiva.com/26124/mocd213m-26124421.pdf?src-supplier=Avnet+Europe
footprint SOIC127P590X350-8N (SOIC, 8-Leads, Body 4,88x3,91mm, Pitch 1,27mm, IPC Medium Density)
part A pins: 1, 2, 7, 8
part B pins: 3, 4, 5, 6

## Molex 39-53-2284
designator X?  (value not drawn)
Conn FPC Connector SKT 28 POS 2.5mm Solder RA Thru-Hole Tray; Manufacturer: Molex; Actuator Material: PBT,Polyester,Polybutylene; Contact Resistance: 20mR; Current Rating: 1A; Voltage Rating: 200V; Number of Positions: 28; Wire/Cable Type: Straight; Supplier 1: Digi-Key; Manufacturer Part Number: 39-53-2284; RoHS: Yes; Category: FFC / FPC; Stock 1: 1984; Pricing 1: 1=2,64000, 10=2,39800, 25=2,25120, 50=2,15340, 100=2,05550, 350=1,85971, 700=1,71290, 1050=1,46820, 2800=1,37032 (USD); Mount: Through Hole; Contact Material: Bronze; Contact Plating: Tin; Housing Color: Natural; Housing Material: Polybutylene; Min Operating Temperature: -20°C; Max Operating Temperature: 80°C; Number of Rows: 1; Packaging: Tray; Package Quantity: 350; Termination: Solder; Orientation: Right Angle; Length: 40.75mm; Pitch: 2.5mm; Depth: 9.8mm; Radiation Hardening: No; Flammability Rating: UL94 V-0; ComponentLink1URL: https://datasheet.ciiva.com/3112/0039532284-ffc-fpc-connectors-3112033.pdf?src-supplier=Avnet; ComponentLink1Description: https://datasheet.ciiva.com/3112/0039532284-ffc-fpc-connectors-3112033.pdf?src-supplier=Avnet; ComponentLink2URL: https://datasheet.ciiva.com/5137/0039532284-ffc-fpc-connectors-160323-5137138.pdf?src-supplier=Mouser; ComponentLink2Description: https://datasheet.ciiva.com/5137/0039532284-ffc-fpc-connectors-160323-5137138.pdf?src-supplier=Mouser; ComponentLink3URL: https://datasheet.ciiva.com/11745/0900766b80d5c280-11745506.pdf?src-supplier=RSComponents; ComponentLink3Description: https://datasheet.ciiva.com/11745/0900766b80d5c280-11745506.pdf?src-supplier=RSComponents; ComponentLink4URL: https://datasheet.ciiva.com/16123/413980039532284-ffc-fpc-nectors-16123787.pdf?src-supplier=Onlinecomponents.com; ComponentLink4Description: https://datasheet.ciiva.com/16123/413980039532284-ffc-fpc-nectors-16123787.pdf?src-supplier=Onlinecomponents.com; ComponentLink5URL: https://datasheet.ciiva.com/26288/66100039532284-ffc-fpc-nectors-26288859.pdf?src-supplier=Onlinecomponents.com; ComponentLink5Description: https://datasheet.ciiva.com/26288/66100039532284-ffc-fpc-nectors-26288859.pdf?src-supplier=Onlinecomponents.com; ComponentLink6URL: https://datasheet.ciiva.com/16660/0039532284-ffc-fpc-connectors-16660085.pdf?src-supplier=Avnet+Europe; ComponentLink6Description: https://datasheet.ciiva.com/16660/0039532284-ffc-fpc-connectors-16660085.pdf?src-supplier=Avnet+Europe; ComponentLink7URL: https://datasheet.ciiva.com/10366/0039532284-ffc-fpc-connectors-10366634.pdf?src-supplier=Avnet; ComponentLink7Description: https://datasheet.ciiva.com/10366/0039532284-ffc-fpc-connectors-10366634.pdf?src-supplier=Avnet; ComponentLink8URL: https://datasheet.ciiva.com/671/039532284-sd-671724.pdf?src-supplier=Digi-Key; ComponentLink8Description: https://datasheet.ciiva.com/671/039532284-sd-671724.pdf?src-supplier=Digi-Key; Supplier Part Number 1: WM3965-ND

## Molex 473460001
designator XS?  (value not drawn)
Conn Micro USB Type B RCP 5 POS 0.65mm Solder RA SMD 5 Terminal 1 Port Embossed T/R; Manufacturer Part Number: 0473461001; Number of Contacts: 5; Gender: Receptacle; Number of Ports: 1; Max Voltage Rating (AC): 30V; РКД Наименование: *; Supplier 1: Digi-Key; Manufacturer: Molex; Stock 1: 27122; Pricing 1: 1=0.97, 10=0.867, 25=0.82, 50=0.7884, 100=0.7569, 250=0.69384, 500=0.63074, 1000=0.56766 (USD); Mount: Horizontal,Screw,Surface Mount; Contact Material: Copper Alloy; Contact Plating: Gold; Housing Material: Thermoplastic; Number of Terminals: 5; Min Operating Temperature: -30°C; Max Operating Temperature: 85°C; Termination: Solder; Orientation: Right Angle; Package Quantity: 2000; Packaging: Tape and Reel; Connector Type: USB; Features: Shielded; Length: 7.8mm; Pitch: 0.65mm; ComponentLink1URL: http://www.molex.com/pdm_docs/sd/473461001_sd.pdf; ComponentLink1Description: http://www.molex.com/pdm_docs/sd/473461001_sd.pdf; Supplier Part Number 1: WM11228CT-ND
footprint Molex 473460001
pins: 1, 2, 3, 4, 5, 6
text: Цепь; Конт.; Vbus; DM; DP; ID; GND; Shield

## Molex 1051330001
designator XS?  (value not drawn)
Conn Micro USB Type B RCP 5 POS 0.65mm Solder RA SMD 5 Terminal 1 Port T/R; Manufacturer Part Number: 105133-0001; Gender: Receptacle; Connector Type: Receptacle,USB; Number of Contacts: 5; Number of Ports: 1; Max Voltage Rating (AC): 30V; Current Rating: 1.8A; USB Standard: USB 2.0; Supplier 1: Digi-Key; Manufacturer: Molex; Stock 1: 41848; Pricing 1: 1=1.06, 10=0.928, 25=0.8732, 50=0.837, 100=0.8005, 250=0.72776 (USD); Mount: Surface Mount,Through Hole,Vertical; Contact Material: Copper Alloy; Contact Plating: Gold; Colour: Black; Number of Terminals: 5; Housing Material: Thermoplastic; Min Operating Temperature: -30°C; Max Operating Temperature: 85°C; Package Quantity: 500; Termination: Solder; Orientation: Right Angle; Packaging: Tape and Reel; Voltage Rating (AC): 30V; Features: Shielded; Pitch: 0.65mm; Radiation Hardening: No; REACH SVHC: Unknown; Flammability Rating: UL94 V-0; Supplier Part Number 1: WM9734CT-ND; РКД Наименование: *
footprint Molex 1051330001
pins: 1, 2, 3, 4, 5, 6
text: Цепь; Конт.; Vbus; DM; DP; ID; GND; Shield

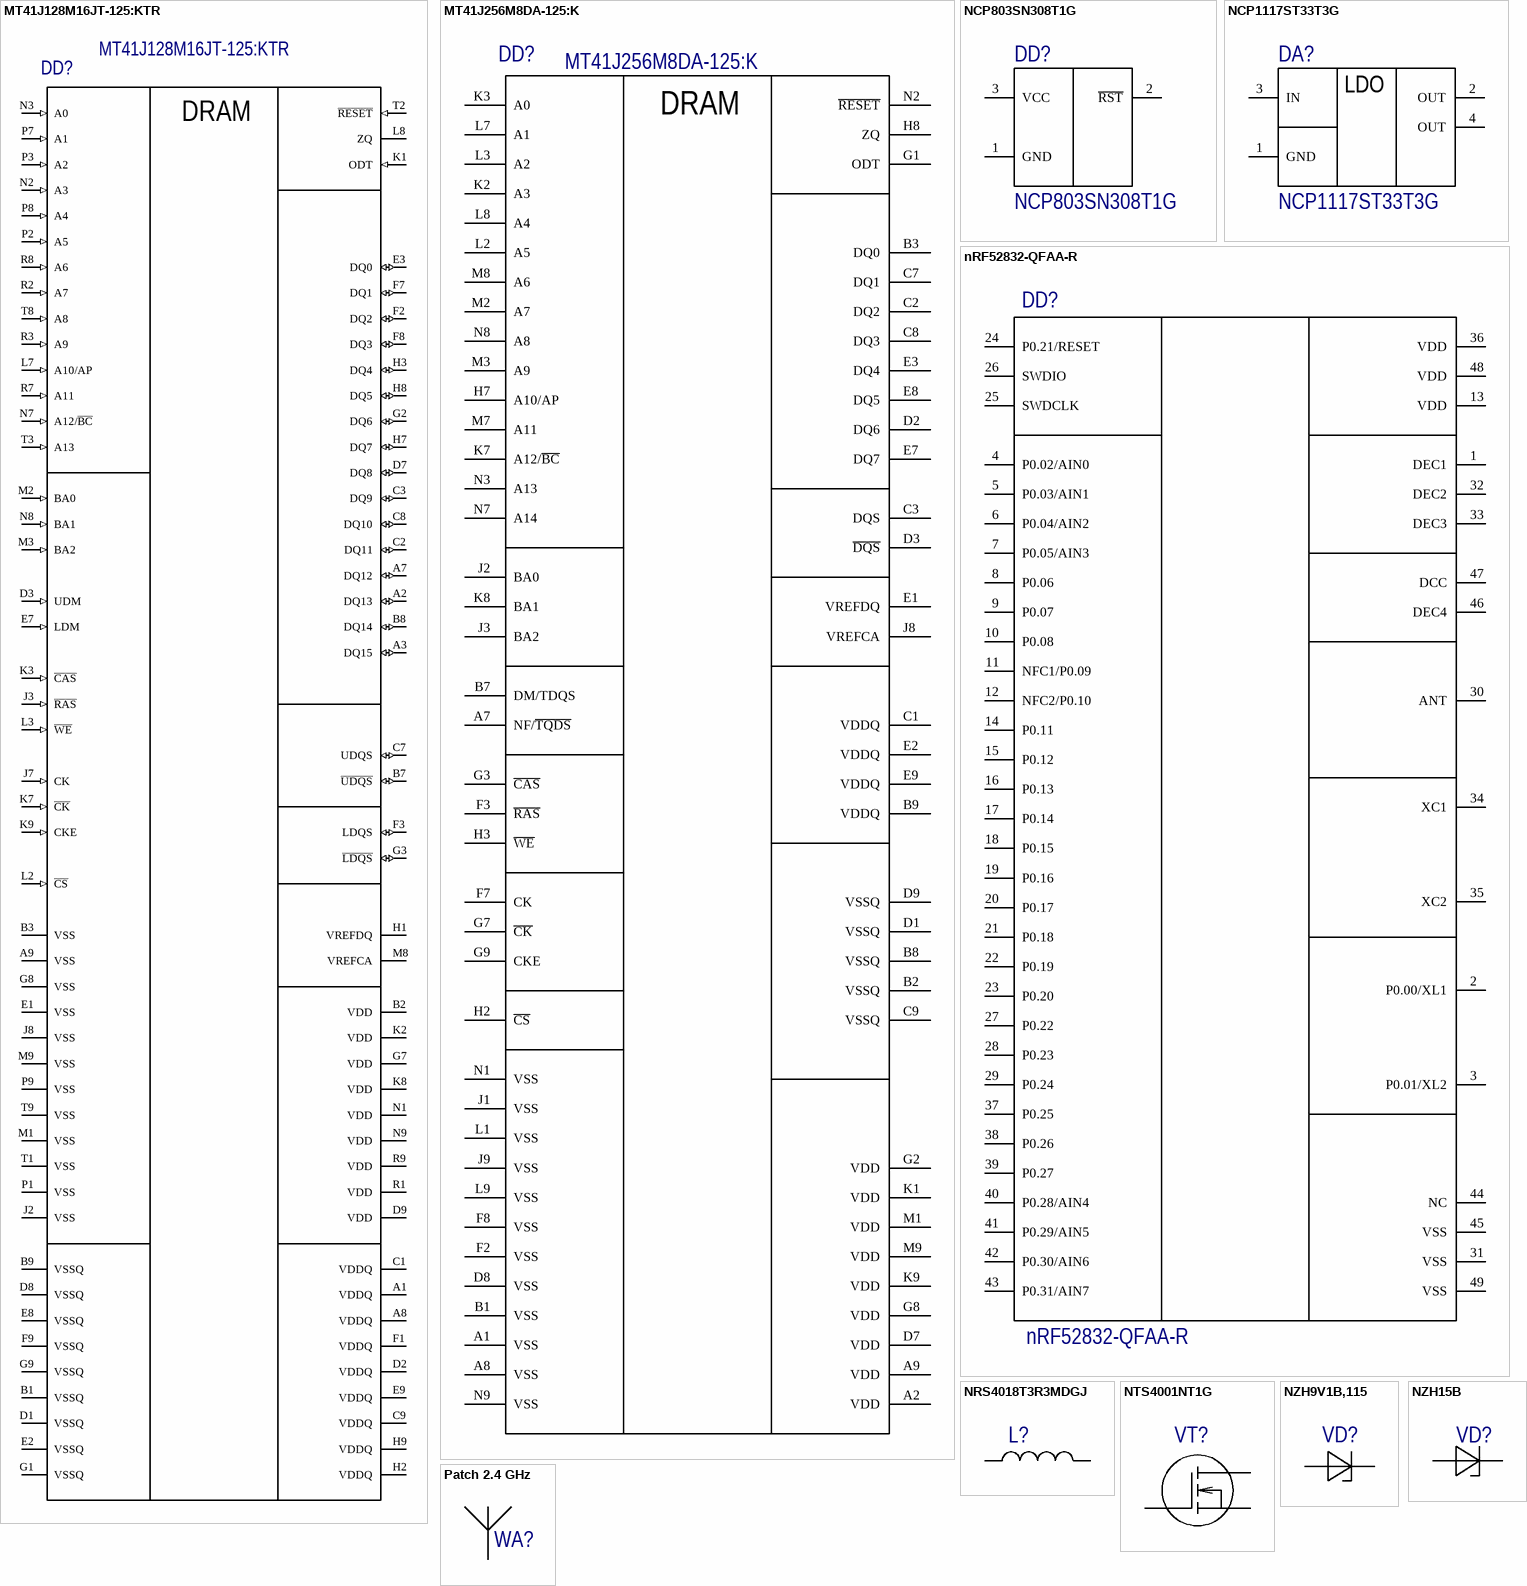
[diagram p8: symbols MT41J128M16JT-125:KTR to Patch 2.4 GHz]

## MT41J128M16JT-125:KTR
designator DD?
IC DRAM 2G PARALLEL 96FBGA; Manufacturer: Micron Technology; Memory Type: RAM,DDR3 SDRAM,Volatile; Frequency: 800MHz; Address Bus Width: 17b; Density: 2Gb; Max Frequency: 1.6GHz; Operating Supply Voltage: 1.5V; Access Time: 13.75ns; Supplier 1: Digi-Key; Manufacturer Part Number: MT41J128M16JT-125:KTR; Stock 1: 0; Mount: Surface Mount; Case/Package: FBGA; Number of Pins: 96; Min Operating Temperature: 0°C; Max Operating Temperature: 95°C; Packaging: Tape and Reel; Interface: Parallel; Package Quantity: 2000; Memory Size: 2Gb; ComponentLink1URL: http://www.micron.com/~/media/Documents/Products/Data%20Sheet/DRAM/DDR3/2Gb_DDR3_SDRAM.pdf?src-supplier=Digi-Key; ComponentLink1Description: http://www.micron.com/~/media/Documents/Products/Data%20Sheet/DRAM/DDR3/2Gb_DDR3_SDRAM.pdf?src-supplier=Digi-Key; Supplier Part Number 1: 557-1611-1-ND
footprint BGA96C80P9X16_800X1400X110 (BGA, 96-Leads, Body 8,00x14,00mmx1,10mm, Pitch 0,80mm)
pins: A1 VDDQ (power), A2 DQ13 (io), A3 DQ15 (io), A7 DQ12 (io), A8 VDDQ (power), A9 VSS (power), B1 VSSQ (power), B2 VDD (power), B3 VSS (power), B7 ~{UDQS} (io), B8 DQ14 (io), B9 VSSQ (power), C1 VDDQ (power), C2 DQ11 (io), C3 DQ9 (io), C7 UDQS (io), C8 DQ10 (io), C9 VDDQ (power), D1 VSSQ (power), D2 VDDQ (power), D3 UDM (in), D7 DQ8 (io), D8 VSSQ (power), D9 VDD (power), E1 VSS (power), E2 VSSQ (power), E3 DQ0 (io), E7 LDM (in), E8 VSSQ (power), E9 VDDQ (power), F1 VDDQ (power), F2 DQ2 (io), F3 LDQS (io), F7 DQ1 (io), F8 DQ3 (io), F9 VSSQ (power), G1 VSSQ (power), G2 DQ6 (io), G3 ~{LDQS} (io), G7 VDD (power), G8 VSS (power), G9 VSSQ (power), H1 VREFDQ (power), H2 VDDQ (power), H3 DQ4 (io), H7 DQ7 (io), H8 DQ5 (io), H9 VDDQ (power), J2 VSS (power), J3 ~{RAS} (in), J7 CK (in), J8 VSS (power), K1 ODT (in), K2 VDD (power), K3 ~{CAS} (in), K7 ~{CK} (in), K8 VDD (power), K9 CKE (in), L2 ~{CS} (in), L3 ~{WE} (in), L7 A10/AP (in), L8 ZQ, M1 VSS (power), M2 BA0 (in), M3 BA2 (in), M8 VREFCA (power), M9 VSS (power), N1 VDD (power), N2 A3 (in), N3 A0 (in), N7 A12/~{BC} (in), N8 BA1 (in), N9 VDD (power), P1 VSS (power), P2 A5 (in), P3 A2 (in), P7 A1 (in), P8 A4 (in), P9 VSS (power), R1 VDD (power), R2 A7 (in), R3 A9 (in), R7 A11 (in), R8 A6 (in), R9 VDD (power), T1 VSS (power), T2 ~{RESET} (in), T3 A13 (in), T8 A8 (in), T9 VSS (power)
text: DRAM

## MT41J256M8DA-125:K
designator DD?
DRAM Chip DDR3 SDRAM 2G-Bit 256Mx8 1.5V 78-Pin FBGA; Manufacturer: Micron Technology; Density: 2Gb; Address Bus Width: 18b; Interface: Parallel; Memory Type: RAM,DDR3 SDRAM; Frequency: 800MHz; Max Frequency: 1.6GHz; Max Supply Voltage: 1.575V; Min Supply Voltage: 1.425V; Data Bus Width: 8b; Nominal Supply Current: 103mA; Supplier 1: Mouser; Stock 1: 1392; Pricing 1: 1=4.96, 10=4.53, 25=4.44, 50=4.41, 100=3.96, 250=3.94, 500=3.7, 1000=3.54, 2000=3.43, 10000=3.43 (USD); Mount: Surface Mount; Case/Package: FBGA; Number of Pins: 78; Contact Plating: Copper,Tin,Silver; Min Operating Temperature: 0°C; Max Operating Temperature: 95°C; Packaging: Tray; Operating Supply Voltage: 1.5V; Package Quantity: 1000; Radiation Hardening: No; Lead Free: Lead Free; ComponentLink1URL: https://www.verical.com/server-webapp/html/getDatasheet?partID=551908&src-supplier=Verical; ComponentLink1Description: https://www.verical.com/server-webapp/html/getDatasheet?partID=551908&src-supplier=Verical; ComponentLink2URL: http://www.micron.com/~/media/Documents/Products/Data%20Sheet/DRAM/DDR3/2Gb_DDR3_SDRAM.pdf?src-supplier=Digi-Key; ComponentLink2Description: http://www.micron.com/~/media/Documents/Products/Data%20Sheet/DRAM/DDR3/2Gb_DDR3_SDRAM.pdf?src-supplier=Digi-Key; Description 1: DRAM Chip DDR3 SDRAM 2G-Bit 256Mx8 1.5V 78-Pin FBGA; Supplier Part Number 1: 340-140586-TRAY; Manufacturer Part Number: MT41J256M8DA-125:K
footprint BGA81C80P9X13_800X1050X120 (BGA, 81-Leads, Body 8,00x10,50mmx1,20mm, Pitch 0,80mm)
pins: A1 VSS, A2 VDD, A7 NF/~{TQDS}, A8 VSS, A9 VDD, B1 VSS, B2 VSSQ, B3 DQ0, B7 DM/TDQS, B8 VSSQ, B9 VDDQ, C1 VDDQ, C2 DQ2, C3 DQS, C7 DQ1, C8 DQ3, C9 VSSQ, D1 VSSQ, D2 DQ6, D3 ~{DQS}, D7 VDD, D8 VSS, D9 VSSQ, E1 VREFDQ, E2 VDDQ, E3 DQ4, E7 DQ7, E8 DQ5, E9 VDDQ, F2 VSS, F3 ~{RAS}, F7 CK, F8 VSS, G1 ODT, G2 VDD, G3 ~{CAS}, G7 ~{CK}, G8 VDD, G9 CKE, H2 ~{CS}, H3 ~{WE}, H7 A10/AP, H8 ZQ, J1 VSS, J2 BA0, J3 BA2, J8 VREFCA, J9 VSS, K1 VDD, K2 A3, K3 A0, K7 A12/~{BC}, K8 BA1, K9 VDD, L1 VSS, L2 A5, L3 A2, L7 A1, L8 A4, L9 VSS, M1 VDD, M2 A7, M3 A9, M7 A11, M8 A6, M9 VDD, N1 VSS, N2 ~{RESET}, N3 A13, N7 A14, N8 A8, N9 VSS
text: DRAM